# Altium footprint library mw.PcbLib: 252 footprints (part 12 of 16)
Each footprint in its own frame and in the unit in brackets; x right, y up, seen from the top. Pads: shape width x height; smd on the part's side, far side on the other; paste and mask are expansions set on the pad; w line width, h text height; cw(c..) or ccw(c..) is an arc to the next point about the centre after c.
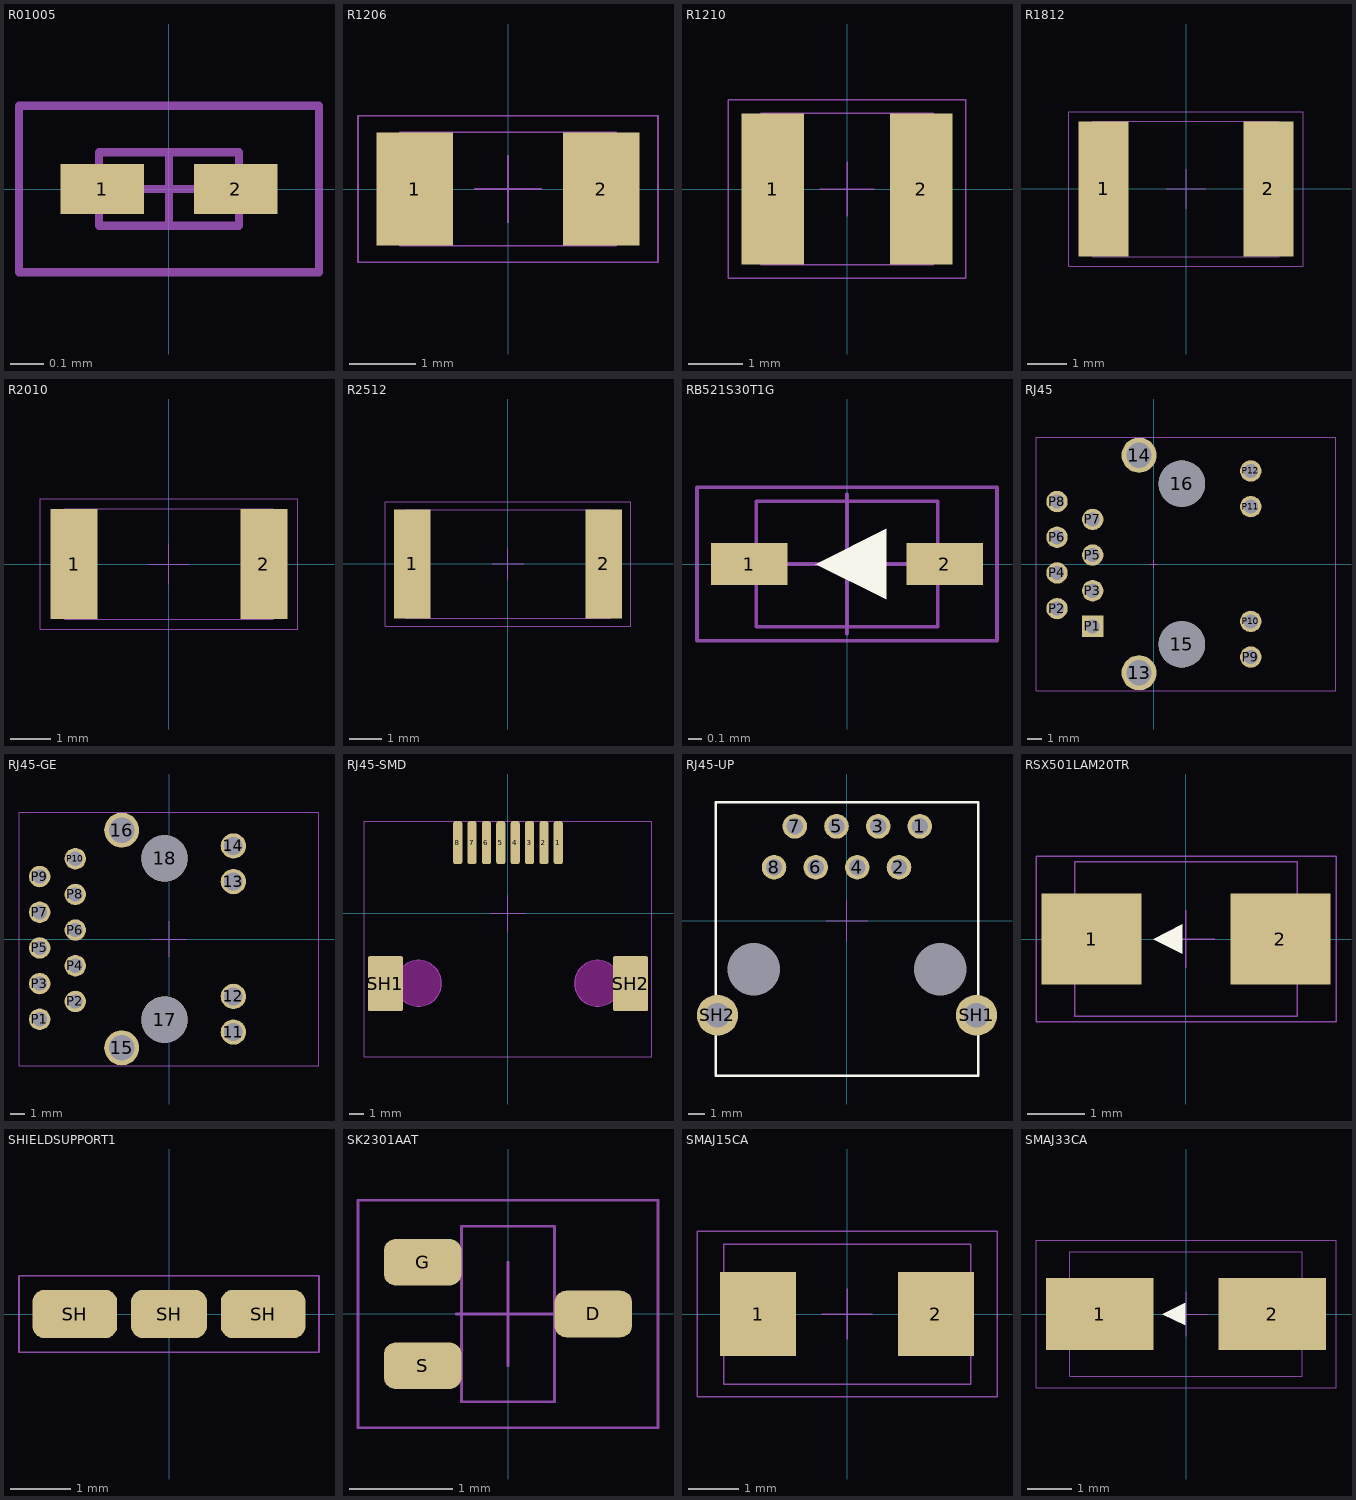
[diagram p11: the footprints below, top view; thin cyan lines are the x and y axes]

## R01005 [mm] "Chip Resistor, 2-Leads, Body 0.40x0.20mm, IPC High Density"
height 0.15
pads (2):
  rect 0.25x0.15 smd: 1(-0.2,0) 2(0.2,0)
Top 3D Body (Mech13):
  lines w0.025: -0.21,-0.11 0.21,-0.11 0.21,0.11 -0.21,0.11 -0.21,-0.11
Top Courtyard:
  lines w0.025: -0.11,0 0.11,0 ; 0,-0.11 0,0.11 ; -0.45,-0.25 -0.45,0.25 0.45,0.25 0.45,-0.25 -0.45,-0.25
3D body "RESC0402X02L.step": height 0.15, standoff 0, extent -0.21,-0.11 0.21,0.11

## R1206 [mm] "Chip Resistor, 2-Leads, Body 3.10x1.58mm, IPC Medium Density"
height 0.65
pads (2):
  rect 1.15x1.7 smd: 1(-1.4,0) 2(1.4,0)
Top 3D Body (Mech13):
  lines w0.025: -1.625,-0.85 -1.625,0.85 1.625,0.85 1.625,-0.85 -1.625,-0.85
Top Courtyard:
  lines w0.025: -0.5,0 0.5,0 ; 0,-0.5 0,0.5 ; -2.25,-1.1 -2.25,1.1 2.25,1.1 2.25,-1.1 -2.25,-1.1
3D body "RESC3116X06N.step": height 0.65, standoff 0, extent -1.625,-0.85 1.625,0.85

## R1210 [mm] "Chip Resistor, 2-Leads, Body 3.10x2.60mm, IPC Medium Density"
height 0.65
pads (2):
  rect 1.15x2.8 smd: 1(-1.375,0) 2(1.375,0)
Top 3D Body (Mech13):
  lines w0.025: -1.6,-1.4 1.6,-1.4 1.6,1.4 -1.6,1.4 -1.6,-1.4
Top Courtyard:
  lines w0.025: -0.5,0 0.5,0 ; 0,-0.5 0,0.5 ; -2.2,-1.65 2.2,-1.65 2.2,1.65 -2.2,1.65 -2.2,-1.65
3D body "RESC3126X06N.step": height 0.65, standoff 0, extent -1.6,-1.4 1.6,1.4

## R1812 [mm] "Chip Resistor, 2-Leads, Body 4.50x3.20mm, IPC Medium Density"
height 0.75
pads (2):
  rect 1.25x3.4 smd: 1(-2.075,0) 2(2.075,0)
Top 3D Body (Mech13):
  lines w0.025: -2.35,-1.7 -2.35,1.7 2.35,1.7 2.35,-1.7 -2.35,-1.7
Top Courtyard:
  lines w0.025: -0.5,0 0.5,0 ; 0,-0.5 0,0.5 ; -2.95,-1.95 -2.95,1.95 2.95,1.95 2.95,-1.95 -2.95,-1.95
3D body "RESC4532X08N.step": height 0.75, standoff 0, extent -2.35,-1.7 2.35,1.7

## R2010 [mm] "Chip Resistor, 2-Leads, Body 5.00x2.50mm, IPC Medium Density"
height 0.65
pads (2):
  rect 1.15x2.7 smd: 1(-2.325,0) 2(2.325,0)
Top 3D Body (Mech13):
  lines w0.025: -2.55,-1.35 2.55,-1.35 2.55,1.35 -2.55,1.35 -2.55,-1.35
Top Courtyard:
  lines w0.025: -0.5,0 0.5,0 ; 0,-0.5 0,0.5 ; -3.15,-1.6 3.15,-1.6 3.15,1.6 -3.15,1.6 -3.15,-1.6
3D body "RESC5025X06N.step": height 0.65, standoff 0, extent -2.55,-1.35 2.55,1.35

## R2512 [mm] "Chip Resistor, 2-Leads, Body 6.35x3.20mm, IPC Medium Density"
height 0.65
pads (2):
  rect 1.15x3.4 smd: 1(-3,0) 2(3,0)
Top 3D Body (Mech13):
  lines w0.025: -3.225,-1.7 -3.225,1.7 3.225,1.7 3.225,-1.7 -3.225,-1.7
Top Courtyard:
  lines w0.025: -0.5,0 0.5,0 ; 0,-0.5 0,0.5 ; -3.85,-1.95 -3.85,1.95 3.85,1.95 3.85,-1.95 -3.85,-1.95
3D body "RESC6432X06N.step": height 0.65, standoff 0, extent -3.225,-1.7 3.225,1.7

## RB521S30T1G [mm] "SODFL, 2-Leads, Body 0.80x1.60mm, IPC High Density"
height 0.7
pads (2):
  rect 0.55x0.3 smd: 1(-0.7,0) 2(0.7,0)
Top Overlay:
  region: 0.283,-0.254 0.283,0.254 -0.225,0
Top 3D Body (Mech13):
  lines w0.025: -0.65,-0.45 0.65,-0.45 0.65,0.45 -0.65,0.45 -0.65,-0.45
Top Courtyard:
  lines w0.025: -0.5,0 0.5,0 ; 0,-0.5 0,0.5 ; -1.075,-0.55 1.075,-0.55 1.075,0.55 -1.075,0.55 -1.075,-0.55
3D body "RB521S30T1G.step": height 0.77, standoff 0.07, extent -0.9,-0.45 0.9,0.45

## RJ45 [mm]
pads (16):
  round 2.5 hole 1.8: 13(-1.055,-7.745) 14(-1.055,7.745)
  round 3.3 hole 3.3 unplated: 15(1.995,-5.715) 16(1.995,5.715)
  rect 1.524x1.524 hole 1: P1(-4.355,-4.445)
  round 1.524 hole 1: P2(-6.895,-3.175) P3(-4.355,-1.905) P4(-6.895,-0.635) P5(-4.355,0.635) P6(-6.895,1.905) P7(-4.355,3.175) P8(-6.895,4.445) P9(6.895,-6.625) P10(6.895,-4.085) P11(6.895,4.085) P12(6.895,6.625)
Top Courtyard:
  lines w0.025: -0.254,0 0.254,0 ; 0,-0.254 0,0.254 ; -8.391,-9.035 -8.391,9.035 12.963,9.035 12.963,-9.035 -8.391,-9.035

## RJ45-GE [mil]
pads (18):
  round 70.87 hole 51.18: 11(180.41,-260.82) 12(180.41,-160.82) 13(180.41,160.83) 14(180.41,260.83)
  round 98 hole 70.87: 15(-132.58,-305.11) 16(-132.58,305.12)
  round 129.92 hole 129.92: 17(-12.5,-225.98) 18(-12.5,225.99)
  round 60 hole 40: P1(-362.5,-225) P2(-262.5,-175) P3(-362.5,-125) P4(-262.5,-75) P5(-362.5,-25) P6(-262.5,25) P7(-362.5,75) P8(-262.5,125) P9(-362.5,175) P10(-262.5,225)
Top Courtyard:
  lines w1: -50,0 50,0 ; 0,-50 0,50 ; -420.37,-355.69 420.37,-355.69 420.37,355.69 -420.37,355.69 -420.37,-355.69
3D body "hr911130a.STEP": height 506.61, standoff -123.31, extent -420.26,-317.1 418.32,318.33

## RJ45-SMD [mm]
pads (10):
  rrect50% 0.65x3.05 smd: 1(3.57,5) 2(2.55,5) 3(1.53,5) 4(0.51,5) 5(-0.51,5) 6(-1.53,5) 7(-2.55,5) 8(-3.57,5)
  rrect10% 2.5x3.89 smd: SH1(-8.7,-5) SH2(8.7,-5)
Keep-Out Layer:
  board cut-out: -7.975,-4.98 -7.975,-5.14 -7.913,-5.454 -7.79,-5.75 -7.612,-6.016 -7.386,-6.242 -7.12,-6.42 -6.824,-6.543 -6.51,-6.605 -6.35,-6.605 -6.19,-6.605 -5.876,-6.543 -5.58,-6.42 -5.314,-6.242 -5.088,-6.016 -4.91,-5.75 -4.787,-5.454 -4.725,-5.14 -4.725,-4.98 -4.725,-4.82 -4.787,-4.506 -4.91,-4.21 -5.088,-3.944 -5.314,-3.718 -5.58,-3.54 -5.876,-3.417 -6.19,-3.355 -6.35,-3.355 -6.51,-3.355 -6.824,-3.417 -7.12,-3.54 -7.386,-3.718 -7.612,-3.944 -7.79,-4.21 -7.913,-4.506 -7.975,-4.82
  board cut-out: 4.725,-4.98 4.725,-5.14 4.787,-5.454 4.91,-5.75 5.088,-6.016 5.314,-6.242 5.58,-6.42 5.876,-6.543 6.19,-6.605 6.35,-6.605 6.51,-6.605 6.824,-6.543 7.12,-6.42 7.386,-6.242 7.612,-6.016 7.79,-5.75 7.913,-5.454 7.975,-5.14 7.975,-4.98 7.975,-4.82 7.913,-4.506 7.79,-4.21 7.612,-3.944 7.386,-3.718 7.12,-3.54 6.824,-3.417 6.51,-3.355 6.35,-3.355 6.19,-3.355 5.876,-3.417 5.58,-3.54 5.314,-3.718 5.088,-3.944 4.91,-4.21 4.787,-4.506 4.725,-4.82
Mechanical 1:
  circle w0.025: c6.35,-4.98 r1.625
  circle w0.025: c-6.35,-4.98 r1.625
Top Courtyard:
  lines w0.025: -1.27,0 1.27,0 ; 0,-1.27 0,1.27 ; -10.2,-10.195 -10.2,6.525 10.2,6.525 10.2,-10.195 -10.2,-10.195
3D body "rj45.STEP": height 13.58, standoff -1.17, extent -9.2,-10.075 9.6,6.275

## RJ45-UP [mm]
pads (12):
  round 1.5 hole 1: 1(4.44,5.76) 2(3.17,3.26) 3(1.9,5.76) 4(0.63,3.26) 5(-0.64,5.76) 6(-1.91,3.26) 7(-3.18,5.76) 8(-4.45,3.26)
  round 2.5 hole 1.5: SH1(7.9,-5.76) SH2(-7.9,-5.76)
  round 0 hole 3.2 unplated: ""(-5.7,-2.96) ""(5.7,-2.96)
Top Overlay:
  lines w0.152: -8,-9.46 -8,7.24 8,7.24 8,-9.46 -8,-9.46
Top Courtyard:
  lines w0.025: -8,-9.46 -8,7.24 8,7.24 8,-9.46 ; -1.27,0 1.27,0 ; 0,-1.27 0,1.27

## RSX501LAM20TR [mm] "SODFL, 2-Leads, Body 2.50x4.70mm, IPC High Density"
height 1.05
pads (2):
  rect 1.75x1.6 smd: 1(-1.65,0) 2(1.65,0)
Top Overlay:
  region: -0.067,-0.254 -0.067,0.254 -0.575,0
Top 3D Body (Mech13):
  lines w0.025: -1.95,-1.35 -1.95,1.35 1.95,1.35 1.95,-1.35 -1.95,-1.35
Top Courtyard:
  lines w0.025: -0.5,0 0.5,0 ; 0,-0.5 0,0.5 ; -2.625,-1.45 -2.625,1.45 2.625,1.45 2.625,-1.45 -2.625,-1.45
3D body "RSX501LAM20TR.step": height 1.05, standoff 0, extent -2.35,-1.35 2.35,1.35

## SHIELDSUPPORT1 [mm] "YS0073A1 L4.4xW0.8xH0.8 0.2"
pads (3):
  rrect50% 1.4x0.8 smd: SH(-1.555,0) SH(1.555,0)
  rrect50% 1.25x0.8 smd: SH(0,0)
Top Courtyard:
  lines w0.025: -2.476,-0.635 -2.476,0.635 2.476,0.635 2.476,-0.635 -2.476,-0.635

## SK2301AAT [mm] "SOT23, 3-Leads, Body 1.60x1.55mm, Pitch 0.50mm, IPC Medium Density"
height 0.9
pads (3):
  rrect50% 0.75x0.45 smd: D(0.825,0) G(-0.825,0.5) S(-0.825,-0.5)
Top 3D Body (Mech13):
  lines w0.025: -0.45,-0.85 0.45,-0.85 0.45,0.85 -0.45,0.85 -0.45,-0.85
Top Courtyard:
  lines w0.025: -0.5,0 0.5,0 ; 0,-0.5 0,0.5 ; -1.45,-1.1 1.45,-1.1 1.45,1.1 -1.45,1.1 -1.45,-1.1
3D body "SK2301AAT.step": height 0.9, standoff 0, extent -0.825,-0.85 0.825,0.85

## SMAJ15CA [mm] "Molded Diode, 2-Leads, Body 4.25x2.60mm, IPC Medium Density"
height 2.42
pads (2):
  rect 1.52x1.68 smd: 1(-1.779,0) 2(1.779,0)
Top 3D Body (Mech13):
  lines w0.025: -2.47,-1.4 2.47,-1.4 2.47,1.4 -2.47,1.4 -2.47,-1.4
Top Courtyard:
  lines w0.025: -0.5,0 0.5,0 ; 0,-0.5 0,0.5 ; -3,-1.65 3,-1.65 3,1.65 -3,1.65 -3,-1.65
3D body "SMAJ15CA.step": height 2.42, standoff 0, extent -2.47,-1.4 2.47,1.4

## SMAJ33CA [mm] "Molded Diode, 2-Leads, Body 5.00x2.67mm, IPC Medium Density"
height 2.2
pads (2):
  rect 2.4x1.6 smd: 1(-1.925,0) 2(1.925,0)
Top Overlay:
  region: -0.017,-0.254 -0.017,0.254 -0.525,0
Top 3D Body (Mech13):
  lines w0.025: -2.6,-1.395 2.6,-1.395 2.6,1.395 -2.6,1.395 -2.6,-1.395
Top Courtyard:
  lines w0.025: -0.5,0 0.5,0 ; 0,-0.5 0,0.5 ; -3.35,-1.65 3.35,-1.65 3.35,1.65 -3.35,1.65 -3.35,-1.65
3D body "SMAJ33CA_1.step": height 2.2, standoff 0, extent -2.82,-1.395 2.82,1.395